# Altium schematic symbol library VOLTAGE_REG(BUCK_BST, 3.3V, 900mA, 10SON).SchLib: 1 symbol
Pins are listed as number, name and electrical type; pins without a type are passive.

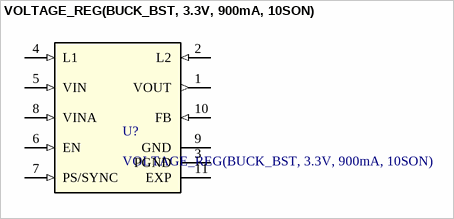
[diagram p0: symbol VOLTAGE_REG(BUCK_BST, 3.3V, 900mA, 10SON)]

## VOLTAGE_REG(BUCK_BST, 3.3V, 900mA, 10SON)
designator U?
High Efficient Single Inductor Buck-Boost Converter with 1-A Switches; Manufacturer: Texas Instruments; Manufacturer_PN: TPS63031DSKR; Packages: WSON-10 Texas Instruments; Datasheet: https://www.ti.com/lit/ds/symlink/tps63031.pdf?ts=1763295059313&ref_url=https%253A%252F%252Fwww.ti.com%252Fproduct%252FTPS63031; Digikey_Link: https://www.digikey.it/en/products/detail/texas-instruments/TPS63031DSKR/2048021?s=N4IgTCBcDaICoAUDKA2AzABjQRgCJIGkAlEAXQF8g
footprint SON50P250X250X80-11N
pins: 1 VOUT (out), 2 L2 (in), 3 PGND (power), 4 L1 (in), 5 VIN (in), 6 EN (in), 7 PS/SYNC (in), 8 VINA (in), 9 GND (power), 10 FB (in), 11 EXP